# Altium integrated library NE555.IntLib: 1 symbol
Pins are listed as number, name and electrical type; pins without a type are passive.

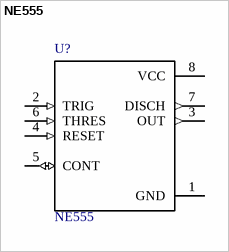
[diagram p0: symbol NE555]

## NE555
designator U?
Precision timing circuits capable of producing accurate time delays or oscillation; MF: Texas Instruments; Package: DIP-8 Texas Instruments; Price: None; MP: NE555; SnapEDA_Link: https://www.snapeda.com/parts/NE555/Texas%20Instruments/view-part/?ref=snap; Availability: Unavailable; Value: *
footprint DIP794W45P254L1060H508Q8
pins: 1 GND (power), 2 TRIG (in), 3 OUT (out), 4 RESET (in), 5 CONT (io), 6 THRES (in), 7 DISCH (out), 8 VCC (power)